# EAGLE library part 74*4053? (library ic-logic)
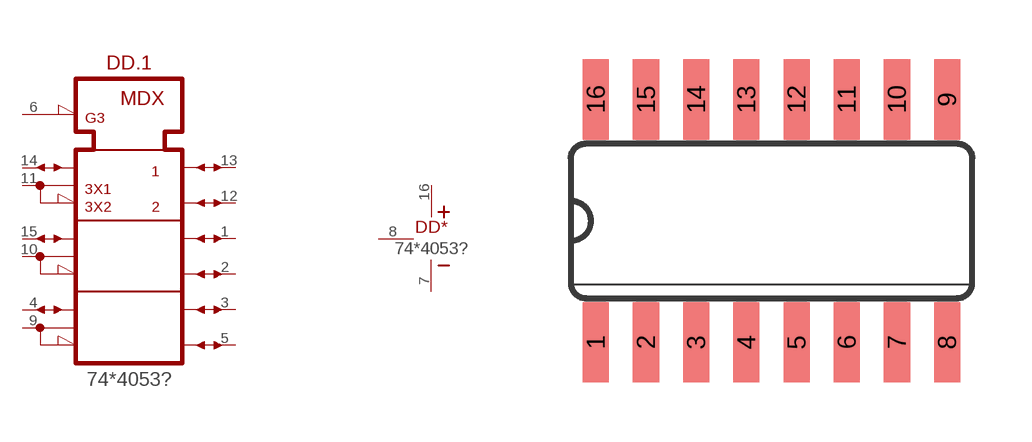
[diagram p0: symbol with the pads of SO-16; footprint SO-16]

Designator prefix DD; gates .1=4053 *=SUPPLY+GND

## 74HC4053D-Q100 (MOUSER: 771-74HC4053D-Q100)  [SO-16]
1  .1:1
2  .1:2
3  .1:3
4  .1:4
5  .1:5
6  .1:!G  in
7  *:V-  pwr
8  *:GND  pwr
9  .1:9
10  .1:10
11  .1:11
12  .1:12
13  .1:13
14  .1:14
15  .1:15
16  *:V+  pwr

## Footprint SO-16 (pad centres in mm)
Small Outline package 150 mil
smd 0.66 x 2.032: 1 -4.445,-3.073; 2 -3.175,-3.073; 3 -1.905,-3.073; 4 -0.635,-3.073; 5 0.635,-3.073; 6 1.905,-3.073; 7 3.175,-3.073; 8 4.445,-3.073; 9 4.445,3.073; 10 3.175,3.073; 11 1.905,3.073; 12 0.635,3.073; 13 -0.635,3.073; 14 -1.905,3.073; 15 -3.175,3.073; 16 -4.445,3.073